# Altium schematic symbol library ACD8143.SchLib: 1 symbol
Pins are listed as number, name and electrical type; pins without a type are passive.

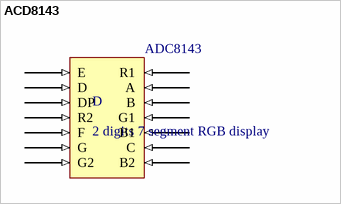
[diagram p0: symbol ACD8143]

## ACD8143
designator D, comment 2 digits 7 segment RGB display
footprint ACD8143
pins: 1 E (in), 2 D (in), 3 DP (in), 4 R2 (in), 5 F (in), 6 G (in), 7 G2 (in), 8 B2 (in), 9 C (in), 10 B1 (in), 11 G1 (in), 12 B (in), 13 A (in), 14 R1 (in)
text: ADC8143